# Altium footprint library Converter_DCDC.PcbLib: 115 footprints (part 6 of 8)
Each footprint in its own frame and in the unit in brackets; x right, y up, seen from the top. Pads: shape width x height; smd on the part's side, far side on the other; paste and mask are expansions set on the pad; w line width, h text height; cw(c..) or ccw(c..) is an arc to the next point about the centre after c.
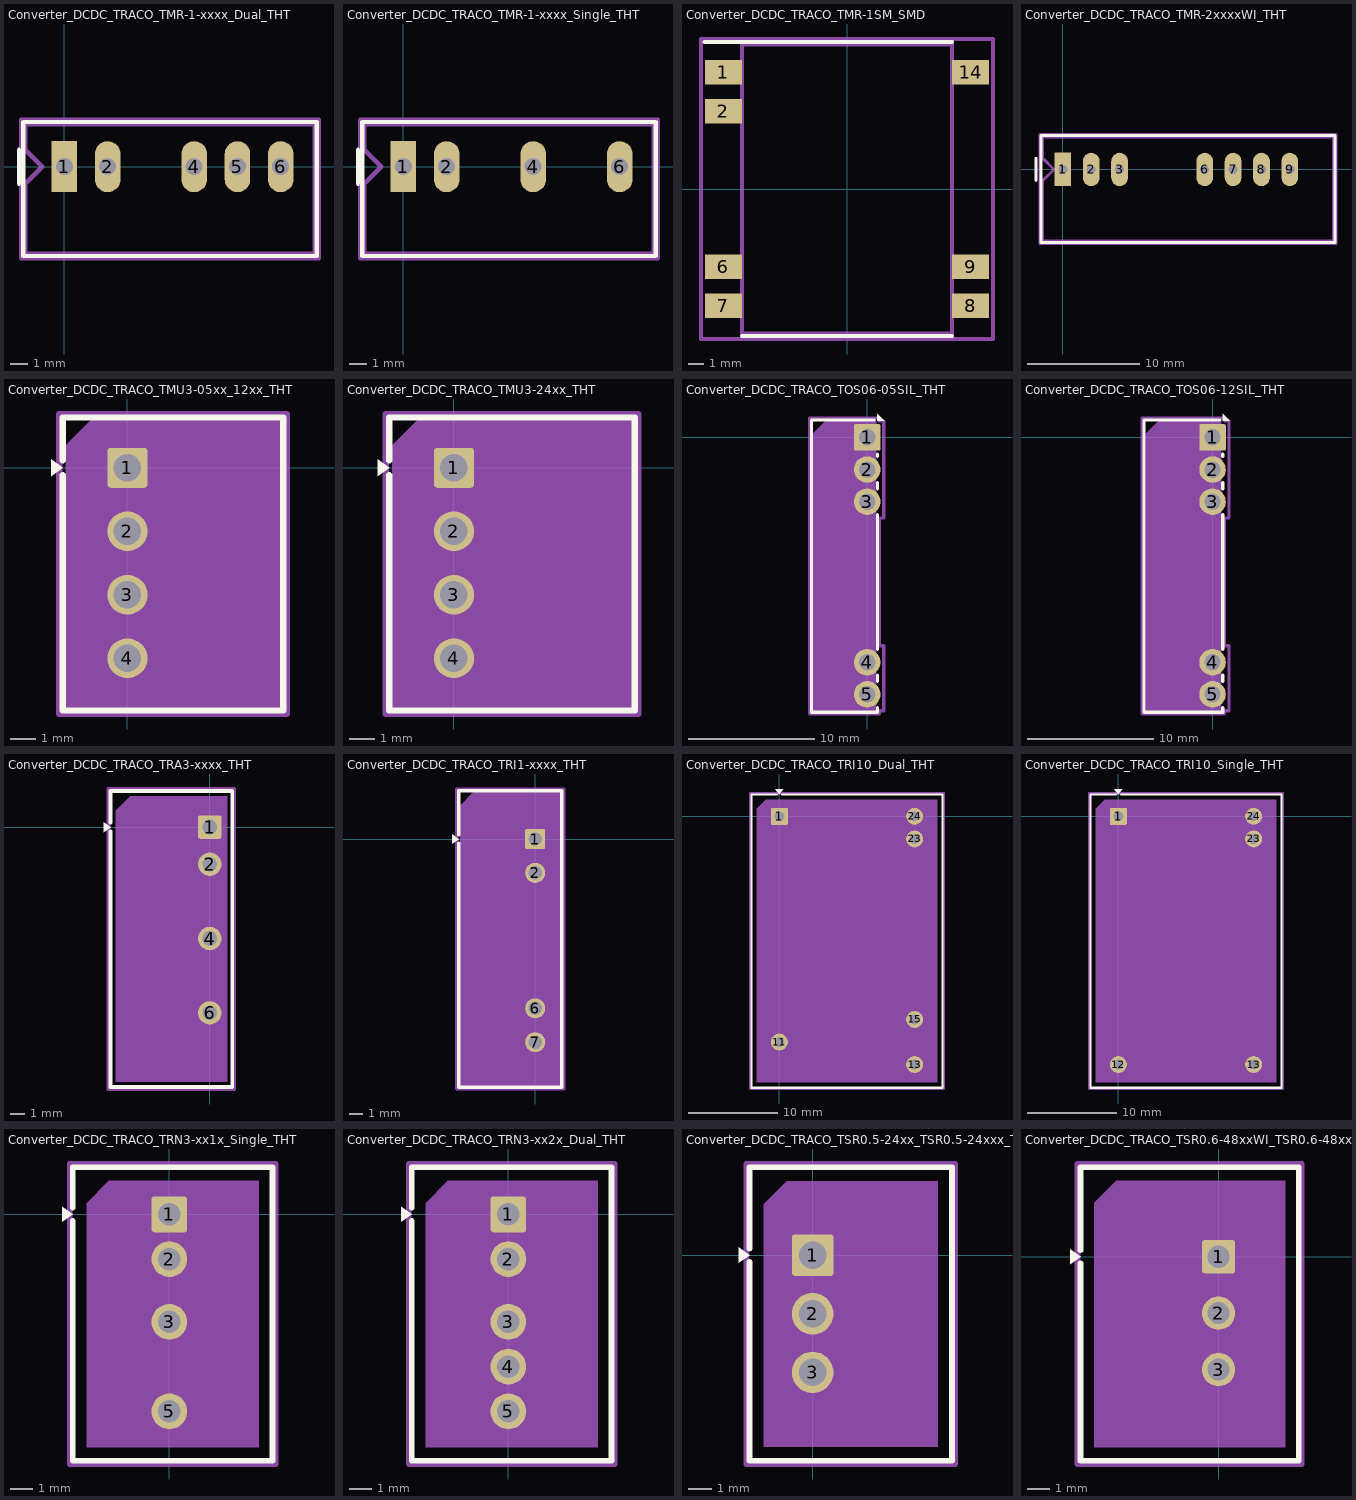
[diagram p5: the footprints below, top view; thin cyan lines are the x and y axes]

## Converter_DCDC_TRACO_TMR-1-xxxx_Dual_THT [mm]
pads (5):
  rect 1.5x3 hole 1: 1(0,0)
  rrect100% 1.5x3 hole 1: 2(2.54,0) 4(7.62,0) 5(10.16,0) 6(12.7,0)
F.SilkS:
  lines w0.254: -2.67,-1 -2.67,1 ; -2.42,-5.24 14.82,-5.24 14.82,2.62 -2.42,2.62 -2.42,-5.24
Top Assembly:
  lines w0.254: -2.3,-5.12 14.7,-5.12 14.7,2.5 -2.3,2.5 -2.3,1 -1.3,0 -2.3,-1 -2.3,-5.12
  text "'.Designator'" at 1.863,-3.84 h1
Top Courtyard:
  lines w0.254: -2.55,-5.37 14.95,-5.37 14.95,2.75 -2.55,2.75 -2.55,-5.37
Top Designator:
  text ".Designator" at -1.478,-1.818 h1.52

## Converter_DCDC_TRACO_TMR-1-xxxx_Single_THT [mm]
pads (4):
  rect 1.5x3 hole 1: 1(0,0)
  rrect100% 1.5x3 hole 1: 2(2.54,0) 4(7.62,0) 6(12.7,0)
F.SilkS:
  lines w0.254: -2.67,-1 -2.67,1 ; -2.42,-5.24 14.82,-5.24 14.82,2.62 -2.42,2.62 -2.42,-5.24
Top Assembly:
  lines w0.254: -2.3,-5.12 14.7,-5.12 14.7,2.5 -2.3,2.5 -2.3,1 -1.3,0 -2.3,-1 -2.3,-5.12
  text "'.Designator'" at 1.863,-3.84 h1
Top Courtyard:
  lines w0.254: -2.55,-5.37 14.95,-5.37 14.95,2.75 -2.55,2.75 -2.55,-5.37
Top Designator:
  text ".Designator" at -1.478,-1.818 h1.52

## Converter_DCDC_TRACO_TMR-1SM_SMD [mm]
pads (7):
  rect 2.4x1.6 smd: 1(-8.075,7.62) 2(-8.075,5.08) 6(-8.075,-5.08) 7(-8.075,-7.62) 8(8.075,-7.62) 9(8.075,-5.08) 14(8.075,7.62)
F.SilkS:
  lines w0.254: -9.3,9.6 6.85,9.6 ; -6.85,-9.6 6.85,-9.6
Top Assembly:
  lines w0.254: -6.85,-9.45 6.85,-9.45 6.85,9.45 -6.85,9.45 -6.85,-9.45
  text "'.Designator'" at -4.047,-0.84 h1
Top Courtyard:
  lines w0.254: -9.55,-9.8 9.55,-9.8 9.55,9.8 -9.55,9.8 -9.55,-9.8
Top Designator:
  text ".Designator" at -7.618,-0.508 h1.52

## Converter_DCDC_TRACO_TMR-2xxxxWI_THT [mm]
pads (7):
  rect 1.5x3 hole 0.8: 1(0,0)
  rrect100% 1.5x3 hole 0.8: 2(2.54,0) 3(5.08,0) 6(12.7,0) 7(15.24,0) 8(17.78,0) 9(20.32,0)
F.SilkS:
  lines w0.254: -2.4,-1 -2.4,1 ; -1.95,-6.55 24.35,-6.55 24.35,3.05 -1.95,3.05 -1.95,-6.55
Top Assembly:
  lines w0.254: -1.8,-6.4 24.2,-6.4 24.2,2.9 -1.8,2.9 -1.8,1 -0.8,0 -1.8,-1 -1.8,-6.4
  text "'.Designator'" at 5.143,-4.6 h1
Top Courtyard:
  lines w0.254: -2.05,-6.65 24.45,-6.65 24.45,3.15 -2.05,3.15 -2.05,-6.65
Top Designator:
  text ".Designator" at 3.407,-2.258 h1.52

## Converter_DCDC_TRACO_TMU3-05xx_12xx_THT [mm]
pads (4):
  rrect16% 1.6x1.6 hole 1.1: 1(0,0)
  round 1.6 hole 1.1: 2(0,-2.54) 3(0,-5.08) 4(0,-7.62)
F.SilkS:
  region: -2.585,0 -3.055,-0.34 -3.055,0.34
  lines w0.254: -2.585,-0.296 -2.585,-9.71 6.235,-9.71 6.235,2.01 -2.585,2.01 -2.585,0.296
Top Assembly:
  region: 6.125,-9.6 -2.475,-9.6 -2.475,0.9 -1.475,1.9 6.125,1.9
  text "'.Designator'" at -2.227,-4.69 h1
Top Courtyard:
  lines w0.254: -2.73,-9.85 6.38,-9.85 6.38,2.15 -2.73,2.15 -2.73,-9.85
Top Designator:
  text ".Designator" at -5.892,-4.358 h1.52

## Converter_DCDC_TRACO_TMU3-24xx_THT [mm]
pads (4):
  rrect16% 1.6x1.6 hole 1.1: 1(0,0)
  round 1.6 hole 1.1: 2(0,-2.54) 3(0,-5.08) 4(0,-7.62)
F.SilkS:
  region: -2.585,0 -3.055,-0.34 -3.055,0.34
  lines w0.254: -2.585,-0.296 -2.585,-9.71 7.235,-9.71 7.235,2.01 -2.585,2.01 -2.585,0.296
Top Assembly:
  region: 7.125,-9.6 -2.475,-9.6 -2.475,0.9 -1.475,1.9 7.125,1.9
  text "'.Designator'" at -1.727,-4.69 h1
Top Courtyard:
  lines w0.254: -2.73,-9.85 7.38,-9.85 7.38,2.15 -2.73,2.15 -2.73,-9.85
Top Designator:
  text ".Designator" at -5.392,-4.358 h1.52

## Converter_DCDC_TRACO_TOS06-05SIL_THT [mm]
pads (5):
  rrect12% 2.1x2.1 hole 1.3: 1(0,0)
  round 2.1 hole 1.3: 2(0,-2.54) 3(0,-5.08) 4(0,-17.78) 5(0,-20.32)
F.SilkS:
  region: 1.354,1.31 0.81,1.31 0.81,1.854
  lines w0.254: 0.57,1.39 -4.41,1.39 -4.41,-21.73 0.81,-21.73 0.81,-21.35 ; 0.81,-19.29 0.81,-18.81 ; 0.81,-16.75 0.81,-6.11 ; 0.81,-4.05 0.81,-3.57 ; 0.81,-1.51 0.81,-1.31
Top Assembly:
  region: 0.7,-21.62 -4.3,-21.62 -4.3,0.28 -3.3,1.28 0.7,1.28
  text "'.Designator'" at -5.847,-11.01 h1
Top Courtyard:
  lines w0.254: -4.55,-21.87 0.95,-21.87 0.95,-21.62 1.3,-21.62 1.3,-16.48 0.95,-16.48 0.95,-6.38 1.3,-6.38 1.3,1.3 0.95,1.3 0.95,1.53 -4.55,1.53 -4.55,-21.87
Top Designator:
  text ".Designator" at -9.568,-10.579 h1.52

## Converter_DCDC_TRACO_TOS06-12SIL_THT [mm]
pads (5):
  rrect12% 2.1x2.1 hole 1.3: 1(0,0)
  round 2.1 hole 1.3: 2(0,-2.54) 3(0,-5.08) 4(0,-17.78) 5(0,-20.32)
F.SilkS:
  region: 1.354,1.31 0.81,1.31 0.81,1.854
  lines w0.254: 0.57,1.39 -5.41,1.39 -5.41,-21.73 0.81,-21.73 0.81,-21.35 ; 0.81,-19.29 0.81,-18.81 ; 0.81,-16.75 0.81,-6.11 ; 0.81,-4.05 0.81,-3.57 ; 0.81,-1.51 0.81,-1.31
Top Assembly:
  region: 0.7,-21.62 -5.3,-21.62 -5.3,0.28 -4.3,1.28 0.7,1.28
  text "'.Designator'" at -6.347,-11.01 h1
Top Courtyard:
  lines w0.254: -5.55,-21.87 0.95,-21.87 0.95,-21.62 1.3,-21.62 1.3,-16.48 0.95,-16.48 0.95,-6.38 1.3,-6.38 1.3,1.3 0.95,1.3 0.95,1.53 -5.55,1.53 -5.55,-21.87
Top Designator:
  text ".Designator" at -10.068,-10.579 h1.52

## Converter_DCDC_TRACO_TRA3-xxxx_THT [mm]
pads (4):
  rrect16% 1.6x1.6 hole 1: 1(0,0)
  round 1.6 hole 1: 2(0,-2.54) 4(0,-7.62) 6(0,-12.7)
F.SilkS:
  region: -6.78,0 -7.25,-0.34 -7.25,0.34
  lines w0.254: -6.78,-0.296 -6.78,-17.76 1.54,-17.76 1.54,2.46 -6.78,2.46 -6.78,0.296
Top Assembly:
  region: 1.18,-17.4 -6.42,-17.4 -6.42,1.1 -5.42,2.1 1.18,2.1
  text "'.Designator'" at -6.667,-8.49 h1
Top Courtyard:
  lines w0.254: -6.92,-17.9 1.68,-17.9 1.68,2.6 -6.92,2.6 -6.92,-17.9
Top Designator:
  text ".Designator" at -10.339,-8.158 h1.52

## Converter_DCDC_TRACO_TRI1-xxxx_THT [mm]
pads (4):
  rrect17% 1.5x1.5 hole 1: 1(0,0)
  round 1.5 hole 1: 2(0,-2.54) 6(0,-12.7) 7(0,-15.24)
F.SilkS:
  region: -5.735,0 -6.205,-0.34 -6.205,0.34
  lines w0.254: -5.735,-0.296 -5.735,-18.61 1.985,-18.61 1.985,3.61 -5.735,3.61 -5.735,0.296
Top Assembly:
  region: 1.875,-18.5 -5.625,-18.5 -5.625,2.5 -4.625,3.5 1.875,3.5
  text "'.Designator'" at -5.927,-8.34 h1
Top Courtyard:
  lines w0.254: -5.88,-18.75 2.13,-18.75 2.13,3.75 -5.88,3.75 -5.88,-18.75
Top Designator:
  text ".Designator" at -9.592,-8.008 h1.52

## Converter_DCDC_TRACO_TRI10_Dual_THT [mm]
pads (6):
  rrect13% 1.9x1.9 hole 1.1: 1(0,0)
  round 1.9 hole 1.1: 11(0,-25.4) 13(15.22,-27.94) 15(15.22,-22.86) 23(15.22,-2.54) 24(15.22,0)
F.SilkS:
  region: 0,2.47 -0.44,3.08 0.44,3.08
  lines w0.254: -0.296,2.47 -3.15,2.47 -3.15,-30.55 18.37,-30.55 18.37,2.47 0.296,2.47
Top Assembly:
  region: 17.76,-29.94 -2.54,-29.94 -2.54,0.86 -1.54,1.86 17.76,1.86
  text "'.Designator'" at 3.563,-14.88 h1
Top Courtyard:
  lines w0.254: -3.29,-30.69 18.51,-30.69 18.51,2.61 -3.29,2.61 -3.29,-30.69
Top Designator:
  text ".Designator" at -0.008,-14.376 h1.52

## Converter_DCDC_TRACO_TRI10_Single_THT [mm]
pads (5):
  rrect13% 1.9x1.9 hole 1.1: 1(0,0)
  round 1.9 hole 1.1: 12(0,-27.94) 13(15.22,-27.94) 23(15.22,-2.54) 24(15.22,0)
F.SilkS:
  region: 0,2.47 -0.44,3.08 0.44,3.08
  lines w0.254: -0.296,2.47 -3.15,2.47 -3.15,-30.55 18.37,-30.55 18.37,2.47 0.296,2.47
Top Assembly:
  region: 17.76,-29.94 -2.54,-29.94 -2.54,0.86 -1.54,1.86 17.76,1.86
  text "'.Designator'" at 3.563,-14.88 h1
Top Courtyard:
  lines w0.254: -3.29,-30.69 18.51,-30.69 18.51,2.61 -3.29,2.61 -3.29,-30.69
Top Designator:
  text ".Designator" at -0.008,-14.376 h1.52

## Converter_DCDC_TRACO_TRN3-xx1x_Single_THT [mm]
pads (4):
  rrect16% 1.6x1.6 hole 1: 1(0,0)
  round 1.6 hole 1: 2(0,-2) 3(0,-4.8) 5(0,-8.8)
F.SilkS:
  region: -4.31,0 -4.78,-0.34 -4.78,0.34
  lines w0.254: -4.31,-0.296 -4.31,-11.01 4.61,-11.01 4.61,2.11 -4.31,2.11 -4.31,0.296
Top Assembly:
  region: 4,-10.4 -3.7,-10.4 -3.7,0.5 -2.7,1.5 4,1.5
  text "'.Designator'" at -3.897,-5.29 h1
Top Courtyard:
  lines w0.254: -4.45,-11.15 4.75,-11.15 4.75,2.25 -4.45,2.25 -4.45,-11.15
Top Designator:
  text ".Designator" at -7.569,-4.958 h1.52

## Converter_DCDC_TRACO_TRN3-xx2x_Dual_THT [mm]
pads (5):
  rrect16% 1.6x1.6 hole 1: 1(0,0)
  round 1.6 hole 1: 2(0,-2) 3(0,-4.8) 4(0,-6.8) 5(0,-8.8)
F.SilkS:
  region: -4.31,0 -4.78,-0.34 -4.78,0.34
  lines w0.254: -4.31,-0.296 -4.31,-11.01 4.61,-11.01 4.61,2.11 -4.31,2.11 -4.31,0.296
Top Assembly:
  region: 4,-10.4 -3.7,-10.4 -3.7,0.5 -2.7,1.5 4,1.5
  text "'.Designator'" at -3.897,-5.29 h1
Top Courtyard:
  lines w0.254: -4.45,-11.15 4.75,-11.15 4.75,2.25 -4.45,2.25 -4.45,-11.15
Top Designator:
  text ".Designator" at -7.569,-4.958 h1.52

## Converter_DCDC_TRACO_TSR0.5-24xx_TSR0.5-24xxx_THT [mm]
pads (3):
  rrect14% 1.8x1.8 hole 1.2: 1(0,0)
  round 1.8 hole 1.2: 2(0,-2.54) 3(0,-5.08)
F.SilkS:
  region: -2.735,0 -3.205,-0.34 -3.205,0.34
  lines w0.254: -2.735,-0.296 -2.735,-8.91 6.035,-8.91 6.035,3.81 -2.735,3.81 -2.735,0.296
Top Assembly:
  region: 5.425,-8.3 -2.125,-8.3 -2.125,2.2 -1.125,3.2 5.425,3.2
  text "'.Designator'" at -2.397,-3.39 h1
Top Courtyard:
  lines w0.254: -2.88,-9.05 6.18,-9.05 6.18,3.95 -2.88,3.95 -2.88,-9.05
Top Designator:
  text ".Designator" at -6.067,-3.058 h1.52

## Converter_DCDC_TRACO_TSR0.6-48xxWI_TSR0.6-48xxxWI_THT [mm]
pads (3):
  rrect17% 1.5x1.5 hole 1: 1(0,0)
  round 1.5 hole 1: 2(0,-2.54) 3(0,-5.08)
F.SilkS:
  region: -6.21,0 -6.68,-0.34 -6.68,0.34
  lines w0.254: -6.21,-0.296 -6.21,-9.19 3.61,-9.19 3.61,4.03 -6.21,4.03 -6.21,0.296
Top Assembly:
  region: 3,-8.58 -5.6,-8.58 -5.6,2.42 -4.6,3.42 3,3.42
  text "'.Designator'" at -5.347,-3.42 h1
Top Courtyard:
  lines w0.254: -6.35,-9.33 3.75,-9.33 3.75,4.17 -6.35,4.17 -6.35,-9.33
Top Designator:
  text ".Designator" at -9.019,-3.088 h1.52